# EAGLE library part ISO1541 (library OPA)
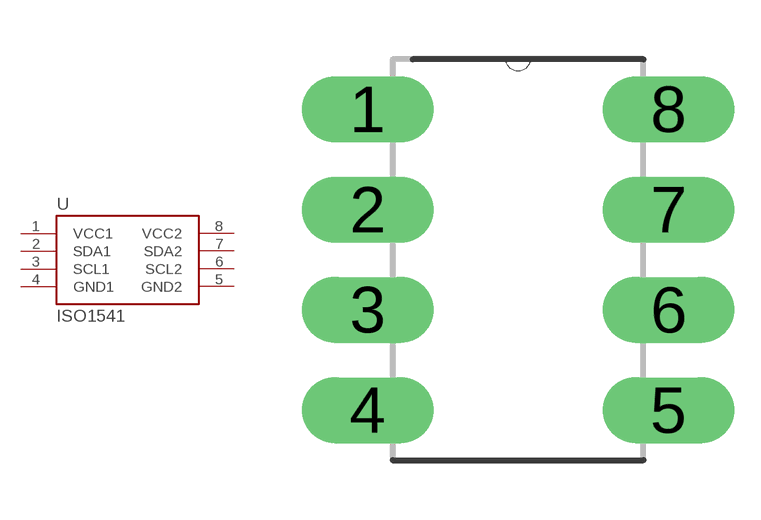
[diagram p0: symbol with the pads of DIP254P762X508-8; footprint DIP254P762X508-8]

Designator prefix U

## ISO1541  [DIP254P762X508-8]
1  VCC1  nc
2  SDA1  nc
3  SCL1  nc
4  GND1  pwr
5  GND2
6  SCL2
7  SDA2  nc
8  VCC2  pwr

## Footprint DIP254P762X508-8 (pad centres in mm)
drill 1.118 long: 1 -7.62,7.62; 2 -7.62,5.08; 3 -7.62,2.54; 4 -7.62,0; 5 0,0; 6 0,2.54; 7 0,5.08; 8 0,7.62